# Altium schematic symbol library Resistores.SchLib: 11 symbols
Pins are listed as number, name and electrical type; pins without a type are passive.

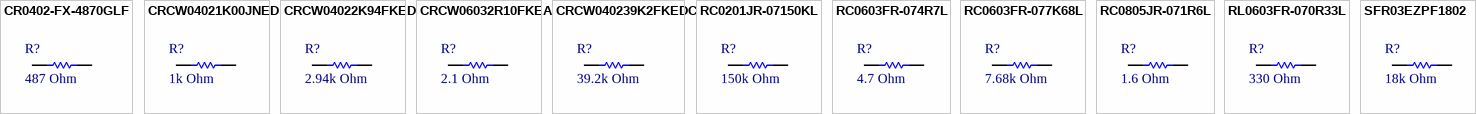
[diagram p0: symbols CR0402-FX-4870GLF to SFR03EZPF1802]

## CR0402-FX-4870GLF
designator R?, comment 487 Ohm
RES SMD 487 OHM 1% 1/16 W 0402; Manufacturer: Bourns; Part Number: CR0402-FX-4870GLF; Temperature Coefficient: 100 PPM/C; Power Rating: 1/16 W; Voltage Rating: 50 V; Library Control - Person that did the Last Update Footprint: Breno (Omega); Supplier 1: Mouser; Category: Thick Film Resistor; Price: 1 = 0.14, 10 = 0.058, 100 = 0.033(USD); Package / Case: 0402; Operating Temperature: -55°C ~ 155°C; Value: 487 Ohm; Tolerance: 1%; Library Ref: Resistor; Resistor Type: Fixo; Size / Dimension: 0.5mm x 1mm x 0.35mm; Supplier Part Number 1: 652-CR0402-FX4870GLF; Library Control - Person that did the Last Update Schematic: Breno (Omega); ComponentLink1Description: Mouser Link; ComponentLink1URL: https://br.mouser.com/ProductDetail/Bourns/CR0402-FX-4870GLF?qs=%2Fha2pyFadui8yxbHVz0QKuAN1WV%252BcTXMEkWPBdAvoazSjBPgZsW2cWgt0xqYQEMx; ComponentLink2Description: Datasheet; ComponentLink2URL: https://br.mouser.com/datasheet/2/54/cr-1858361.pdf
footprint RESISTOR_0402
pins: 1, 2

## CRCW04021K00JNED
designator R?, comment 1k Ohm
RES SMD 1k OHM 5% 1/16 W 0402; Manufacturer: Vishay / Dale; Part Number: CRCW04021K00JNED; Temperature Coefficient: 200 PPM/C; Power Rating: 1/16 W; Voltage Rating: 50 V; Library Control - Person that did the Last Update Footprint: Breno (Omega); Supplier 1: Mouser; Category: Thick Film Resistor; Price: 1 = 0.10, 10 = 0.033, 100 = 0.014(USD); Package / Case: 0402; Operating Temperature: -55°C ~ 155°C; Value: 1k Ohm; Tolerance: 5%; Library Ref: Resistor; Resistor Type: Fixo; Size / Dimension: 0.5mm x 1mm x 0.35mm; Supplier Part Number 1: 71-CRCW0402J-1.0K-E3; Library Control - Person that did the Last Update Schematic: Breno (Omega); ComponentLink1Description: Mouser Link; ComponentLink1URL: https://br.mouser.com/ProductDetail/Vishay-Dale/CRCW04021K00JNED?qs=YX%252BK5oaHNYpGRsHVuzxl1A%3D%3D; ComponentLink2Description: Datasheet; ComponentLink2URL: https://br.mouser.com/datasheet/2/427/dcrcwe3-1762152.pdf
footprint RESISTOR_0402
pins: 1, 2

## CRCW04022K94FKED
designator R?, comment 2.94k Ohm
RES SMD 2.94k OHM 1% 1/16 W 0402; Manufacturer: Vishay / Dale; Part Number: CRCW04022K94FKED; Temperature Coefficient: 100 PPM/C; Power Rating: 1/16 W; Voltage Rating: 50 V; Library Control - Person that did the Last Update Footprint: Breno (Omega); Supplier 1: Mouser; Category: Thick Film Resistor; Price: 1 = 0.10, 10 = 0.042, 100 = 0.017(USD); Package / Case: 0402; Operating Temperature: -55°C ~ 155°C; Value: 2.94k Ohm; Tolerance: 1%; Library Ref: Resistor; Resistor Type: Fixo; Size / Dimension: 0.5mm x 1mm x 0.35mm; Supplier Part Number 1: 71-CRCW0402-2.94K-E3; Library Control - Person that did the Last Update Schematic: Breno (Omega); ComponentLink1Description: Mouser Link; ComponentLink1URL: https://br.mouser.com/ProductDetail/Vishay-Dale/CRCW04022K94FKED?qs=hD42E%2F8yzjpGZRqjVZecEg%3D%3D; ComponentLink2Description: Datasheet; ComponentLink2URL: https://br.mouser.com/datasheet/2/427/dcrcwe3-1762152.pdf
footprint RESISTOR_0402
pins: 1, 2

## CRCW06032R10FKEA
designator R?, comment 2.1 Ohm
RES SMD 2.1 OHM 1% 1/10 W 0603; Manufacturer: Vishay / Dale; Part Number: CRCW06032R10FKEA; Temperature Coefficient: 100 PPM/C; Power Rating: 1/10 W; Voltage Rating: 75V; Library Control - Person that did the Last Update Footprint: Breno (Omega); Supplier 1: Mouser; Category: Thick Film Resistor; Price: 1 = 0.12, 10 = 0.058, 100 = 0.026(USD); Package / Case: 0603; Operating Temperature: -55°C ~ 155°C; Value: 2.1 Ohm; Tolerance: 1%; Library Ref: Resistor; Resistor Type: Fixo; Size / Dimension: 0.85mm x 1.55mm x 0.45mm; Supplier Part Number 1: 71-CRCW06032R10FKEA; Library Control - Person that did the Last Update Schematic: Breno (Omega); ComponentLink1Description: Mouser Link; ComponentLink1URL: https://br.mouser.com/ProductDetail/Vishay-Dale/CRCW06032R10FKEA?qs=DyUWGjl%252BcVuVZspRNQ%252BnNQ%3D%3D; ComponentLink2Description: Datasheet; ComponentLink2URL: https://br.mouser.com/datasheet/2/427/dcrcwe3-1762152.pdf
footprint RESISTOR_0603
pins: 1, 2

## CRCW040239K2FKEDC
designator R?, comment 39.2k Ohm
RES SMD 39.2k OHM 1% 1/16 W 0402; Manufacturer: Vishay / Dale; Part Number: CRCW040239K2FKEDC; Temperature Coefficient: 100 PPM/C; Power Rating: 1/16 W; Voltage Rating: 50 V; Library Control - Person that did the Last Update Footprint: Breno (Omega); Supplier 1: Mouser; Category: Thick Film Resistor; Price: 1 = 0.10, 10 = 0.034, 100 = 0.015(USD); Package / Case: 0402; Operating Temperature: -55°C ~ 155°C; Value: 39.2k Ohm; Tolerance: 1%; Library Ref: Resistor; Resistor Type: Fixo; Size / Dimension: 0.5mm x 1mm x 0.35mm; Supplier Part Number 1: 71-CRCW040239K2FKEDC; Library Control - Person that did the Last Update Schematic: Breno (Omega); ComponentLink1Description: Mouser Link; ComponentLink1URL: https://br.mouser.com/ProductDetail/Vishay-Dale/CRCW040239K2FKEDC?qs=E3Y5ESvWgWPQuNj24ObMug%3D%3D; ComponentLink2Description: Datasheet; ComponentLink2URL: https://br.mouser.com/datasheet/2/427/crcwce3-1762584.pdf
footprint RESISTOR_0402
pins: 1, 2

## RC0201JR-07150KL
designator R?, comment 150k Ohm
RES SMD 150k OHM 5% 1/20 W 0201; Manufacturer: YAGEO; Part Number: RC0201JR-07150KL; Temperature Coefficient: 200 PPM/C; Power Rating: 1/20 W; Voltage Rating: 25 V; Library Control - Person that did the Last Update Footprint: Breno (Omega); Supplier 1: Mouser; Category: Thick Film Resistor; Price: 1 = 0.10, 10 = 0.015, 100 = 0.07(USD); Package / Case: 0201; Operating Temperature: -55°C ~ 125°C; Value: 150k Ohm; Tolerance: 5%; Library Ref: Resistor; Resistor Type: Fixo; Size / Dimension: 0.3mm x 0.6mm x 0.23mm; Supplier Part Number 1: 603-RC0201JR-07150KL; Library Control - Person that did the Last Update Schematic: Breno (Omega); ComponentLink1Description: Mouser Link; ComponentLink1URL: https://br.mouser.com/ProductDetail/YAGEO/RC0201JR-07150KL?qs=sxZXDnvRBEjVIhoWhGl3HQ%3D%3D; ComponentLink2Description: Datasheet; ComponentLink2URL: https://br.mouser.com/datasheet/2/447/PYu_RC_Group_51_RoHS_L_11-1984063.pdf
footprint RESISTOR 0201 (Chip Resistor, 2-Leads, Body 0,60x0,30mm, IPC Medium Density)
pins: 1, 2

## RC0603FR-074R7L
designator R?, comment 4.7 Ohm
RES SMD 4.7 OHM 1% 1/10 W 0603; Manufacturer: YAGEO; Part Number: RC0603FR-074R7L; Temperature Coefficient: 200 PPM/C; Power Rating: 1/10 W; Voltage Rating: 75 V; Library Control - Person that did the Last Update Footprint: Breno (Omega); Supplier 1: Mouser; Category: Thick Film Resistor; Price: 1 = 0.10, 10 = 0.048, 100 = 0.02(USD); Package / Case: 0603; Operating Temperature: -55°C ~ 155°C; Value: 4.7 Ohm; Tolerance: 1%; Library Ref: Resistor; Resistor Type: Fixo; Size / Dimension: 0.8mm x 1.6mm x 0.45mm; Supplier Part Number 1: 603-RC0603FR-074R7L; Library Control - Person that did the Last Update Schematic: Breno (Omega); ComponentLink1Description: Mouser Link; ComponentLink1URL: https://br.mouser.com/ProductDetail/YAGEO/RC0603FR-074R7L?qs=gt6vzsuosg08l2lIFTPhvw%3D%3D; ComponentLink2Description: Datasheet; ComponentLink2URL: https://br.mouser.com/datasheet/2/447/PYu_RC_Group_51_RoHS_L_11-1984063.pdf
footprint RESISTOR_0603
pins: 1, 2

## RC0603FR-077K68L
designator R?, comment 7.68k Ohm
RES SMD 7.68k OHM 1% 1/10 W 0603; Manufacturer: YAGEO; Part Number: RC0603FR-077K68L; Temperature Coefficient: 100 PPM/C; Power Rating: 1/10 W; Voltage Rating: 75 V; Library Control - Person that did the Last Update Footprint: Breno (Omega); Supplier 1: Mouser; Category: Thick Film Resistor; Price: 1 = 0.10, 10 = 0.023, 100 = 0.009(USD); Package / Case: 0603; Operating Temperature: -55°C ~ 155°C; Value: 7.68k Ohm; Tolerance: 1%; Library Ref: Resistor; Resistor Type: Fixo; Size / Dimension: 0.8mm x 1.6mm x 0.45mm; Supplier Part Number 1: 603-RC0603FR-077K68L; Library Control - Person that did the Last Update Schematic: Breno (Omega); ComponentLink1Description: Mouser Link; ComponentLink1URL: https://br.mouser.com/ProductDetail/YAGEO/RC0603FR-077K68L?qs=ksOUTF%2FWcd%252BrhGyrfgzF%252Bg%3D%3D; ComponentLink2Description: Datasheet; ComponentLink2URL: https://br.mouser.com/datasheet/2/447/PYu_RC_Group_51_RoHS_L_11-1984063.pdf
footprint RESISTOR_0603
pins: 1, 2

## RC0805JR-071R6L
designator R?, comment 1.6 Ohm
RES SMD 1.6 OHM 5% 1/8 W 0805; Manufacturer: YAGEO; Part Number: RC0805JR-071R6L; Temperature Coefficient: 200 PPM/C; Power Rating: 1/8 W; Voltage Rating: 150 V; Library Control - Person that did the Last Update Footprint: Breno (Omega); Supplier 1: Mouser; Category: Thick Film Resistor; Price: 1 = 0.22, 10 = 0.073, 100 = 0.03(USD); Package / Case: 0805; Operating Temperature: -55°C ~ 155°C; Value: 1.6 Ohm; Tolerance: 5%; Library Ref: Resistor; Resistor Type: Fixo; Size / Dimension: 1.25mm x 2mm x 0.5mm; Supplier Part Number 1: 603-RC0805JR-071R6L; Library Control - Person that did the Last Update Schematic: Breno (Omega); ComponentLink1Description: Mouser Link; ComponentLink1URL: https://br.mouser.com/ProductDetail/YAGEO/RC0805JR-071R6L?qs=EMpZKEXI8TFzvFH5hiCoiw%3D%3D; ComponentLink2Description: Datasheet; ComponentLink2URL: https://br.mouser.com/datasheet/2/447/PYu_RC_Group_51_RoHS_L_11-1984063.pdf
footprint RESISTOR_0805
pins: 1, 2

## RL0603FR-070R33L
designator R?, comment 330 Ohm
RES SMD 330 OHM 1% 1/10 W 0603; Manufacturer: YAGEO; Part Number: RL0603FR-070R33L; Temperature Coefficient: 800 PPM/C; Power Rating: 1/10 W; Library Control - Person that did the Last Update Footprint: Breno (Omega); Supplier 1: Mouser; Category: Current Sense Resistor; Price: 1 = 0.32, 10 = 0.272, 100 = 0.108(USD); Package / Case: 0603; Operating Temperature: -55°C ~ 155°C; Value: 330 Ohm; Tolerance: 1%; Library Ref: Resistor; Resistor Type: Fixo; Size / Dimension: 0.8mm x 1.6mm x 0.45mm; Supplier Part Number 1: 603-RL0603FR-070R33L; Library Control - Person that did the Last Update Schematic: Breno (Omega); ComponentLink1Description: Mouser Link; ComponentLink1URL: https://br.mouser.com/ProductDetail/YAGEO/RL0603FR-070R33L?qs=BXCcY9r%252B08C6ACa%252BFqk%252BgA%3D%3D; ComponentLink2Description: Datasheet; ComponentLink2URL: https://br.mouser.com/datasheet/2/447/PYu_RL_Group_521_RoHS_L_2-3002987.pdf
footprint RESISTOR_0603
pins: 1, 2

## SFR03EZPF1802
designator R?, comment 18k Ohm
RES SMD 18k OHM 1% 1/10 W 0603; Manufacturer: ROHM Semiconductor; Part Number: SFR03EZPF1802; Temperature Coefficient: 100 PPM/C; Power Rating: 1/10 W; Voltage Rating: 50 V; Library Control - Person that did the Last Update Footprint: Breno (Omega); Supplier 1: Mouser; Category: Thick Film Resistor; Price: 1 = 0.11, 10 = 0.094, 100 = 0.037(USD); Package / Case: 0603; Operating Temperature: -55°C ~ 155°C; Value: 18k Ohm; Tolerance: 1%; Mouser Link: https://br.mouser.com/ProductDetail/ROHM-Semiconductor/SFR03EZPF1802?qs=%2Fha2pyFadujIP5R71V11KKMCski6Orl7dPpAZK1GcyEZfz5vcBfR%252BbHEkEFZRASe; Library Ref: Resistor; Datasheet: https://br.mouser.com/datasheet/2/348/ROHM_S_A0009648217_1-2563033.pdf; Resistor Type: Fixo; Size / Dimension: 0.8mm x 1.6mm x 0.45mm; Supplier Part Number 1: 755-SFR03EZPF1802; Library Control - Person that did the Last Update Schematic: Breno (Omega); ComponentLink1Description: Mouser Link; ComponentLink1URL: https://br.mouser.com/ProductDetail/ROHM-Semiconductor/SFR03EZPF1802?qs=%2Fha2pyFadujIP5R71V11KKMCski6Orl7dPpAZK1GcyEZfz5vcBfR%252BbHEkEFZRASe; ComponentLink2Description: Datasheet; ComponentLink2URL: https://br.mouser.com/datasheet/2/348/ROHM_S_A0009648217_1-2563033.pdf
footprint RESISTOR_0603
pins: 1, 2